# Altium footprint library adafruit.PCBLIB: 643 footprints (part 11 of 41)
Each footprint in its own frame and in the unit in brackets; x right, y up, seen from the top. Pads: shape width x height; smd on the part's side, far side on the other; paste and mask are expansions set on the pad; w line width, h text height; cw(c..) or ccw(c..) is an arc to the next point about the centre after c.
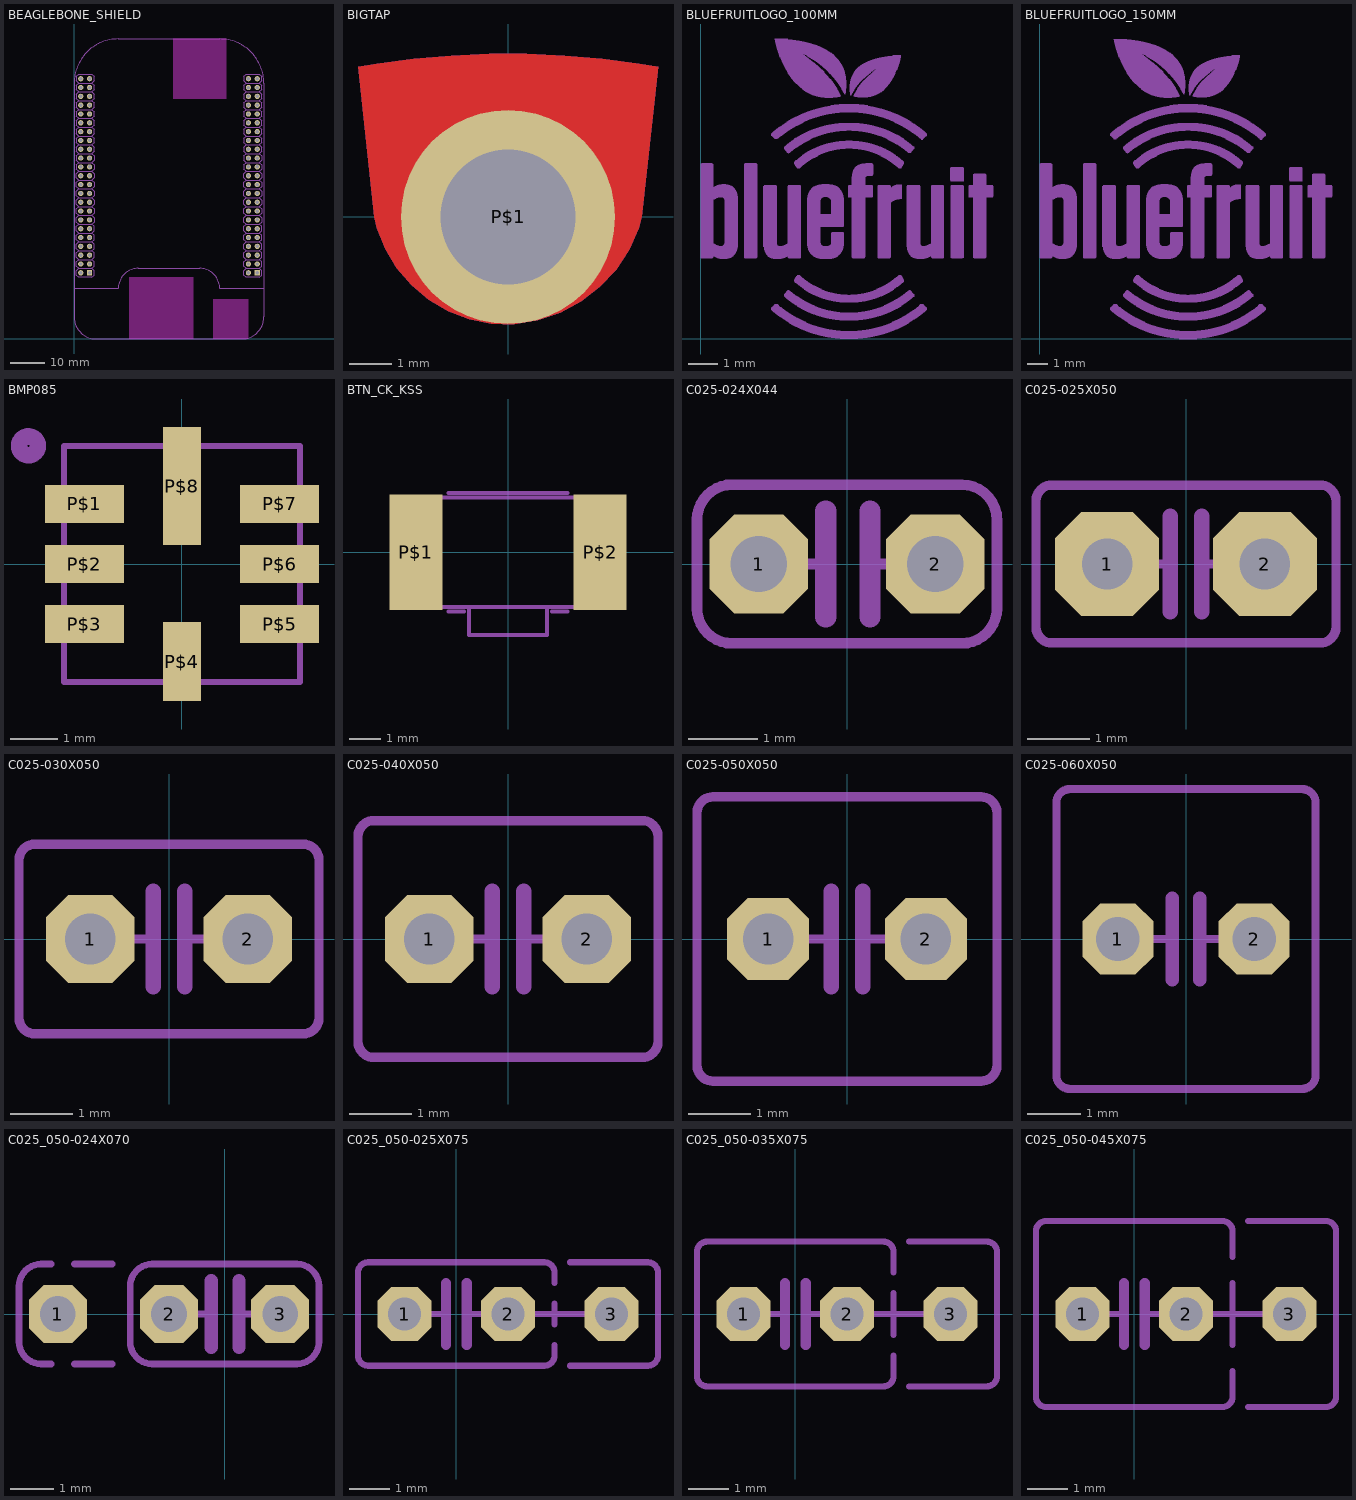
[diagram p10: the footprints below, top view; thin cyan lines are the x and y axes]

## BEAGLEBONE_SHIELD [mm]
pads (92):
  rect 1.508x1.508 / inner round 1.393 / far side rect 1.508x1.508 hole 1: 1(4.445,19.05) 47(52.705,19.05)
  round 1.508 hole 1: 2(1.905,19.05) 3(4.445,21.59) 4(1.905,21.59) 5(4.445,24.13) 6(1.905,24.13) 7(4.445,26.67) 8(1.905,26.67) 9(4.445,29.21) 10(1.905,29.21) 11(4.445,31.75) 12(1.905,31.75) 13(4.445,34.29) 14(1.905,34.29) 15(4.445,36.83) 16(1.905,36.83) 17(4.445,39.37) 18(1.905,39.37) 19(4.445,41.91) 20(1.905,41.91) 21(4.445,44.45) 22(1.905,44.45) 23(4.445,46.99) 24(1.905,46.99) 25(4.445,49.53) 26(1.905,49.53) 27(4.445,52.07) 28(1.905,52.07) 29(4.445,54.61) 30(1.905,54.61) 31(4.445,57.15) 32(1.905,57.15) 33(4.445,59.69) 34(1.905,59.69) 35(4.445,62.23) 36(1.905,62.23) 37(4.445,64.77) 38(1.905,64.77) 39(4.445,67.31) 40(1.905,67.31) 41(4.445,69.85) 42(1.905,69.85) 43(4.445,72.39) 44(1.905,72.39) 45(4.445,74.93) 46(1.905,74.93) 48(50.165,19.05) 49(52.705,21.59) 50(50.165,21.59) 51(52.705,24.13) 52(50.165,24.13) 53(52.705,26.67) 54(50.165,26.67) 55(52.705,29.21) 56(50.165,29.21) 57(52.705,31.75) 58(50.165,31.75) 59(52.705,34.29) 60(50.165,34.29) 61(52.705,36.83) 62(50.165,36.83) 63(52.705,39.37) 64(50.165,39.37) 65(52.705,41.91) 66(50.165,41.91) 67(52.705,44.45) 68(50.165,44.45) 69(52.705,46.99) 70(50.165,46.99) 71(52.705,49.53) 72(50.165,49.53) 73(52.705,52.07) 74(50.165,52.07) 75(52.705,54.61) 76(50.165,54.61) 77(52.705,57.15) 78(50.165,57.15) 79(52.705,59.69) 80(50.165,59.69) 81(52.705,62.23) 82(50.165,62.23) 83(52.705,64.77) 84(50.165,64.77) 85(52.705,67.31) 86(50.165,67.31) 87(52.705,69.85) 88(50.165,69.85) 89(52.705,72.39) 90(50.165,72.39) 91(52.705,74.93) 92(50.165,74.93)
Top keep-out:
  region: 28.575,69.215 28.575,86.36 43.815,86.36 43.815,69.215
  region: 40.005,0 40.005,11.43 50.165,11.43 50.165,0
  region: 15.875,0 15.875,17.78 34.29,17.78 34.29,0
Dimension:
  lines w0.127: 0,14.605 0,73.66 cw(c12.7,73.66) 12.7,86.36 41.91,86.36 cw(c41.91,73.66) 54.61,73.66 54.61,14.605 41.91,14.605 ccw(c36.195,14.605) 36.195,20.32 18.415,20.32 ccw(c18.415,14.605) 12.7,14.605 0,14.605
tDocu:
  drawing of 97 lines, arcs and shapes, not listed
  text "P8" at 2.54,77.47 h1.97
  text "P9" at 50.8,77.47 h1.97
tPlace:
  drawing of 324 lines, arcs and shapes, not listed

## BIGTAP [mil]
pads (1):
  round 200 hole 125.98: P$1(0,0)
Top:
  region: 140,140 122.68,143.05 87.79,147.65 52.74,150.71 17.59,152.25 -17.59,152.25 -52.74,150.71 -87.79,147.65 -122.68,143.05 -140,140 -125,0 -122.69,-10.26 -114.78,-29.76 -103.81,-47.71 -90.05,-63.63 -73.89,-77.1 -55.75,-87.76 -36.12,-95.32 -15.51,-99.58 -5,-100 6.05,-99.99 27.84,-96.36 48.75,-89.24 68.22,-78.8 85.73,-65.33 100.81,-49.19 113.06,-30.81 122.15,-10.67 125,0
Bottom:
  region: 140,140 122.68,143.05 87.79,147.65 52.74,150.71 17.59,152.25 -17.59,152.25 -52.74,150.71 -87.79,147.65 -122.68,143.05 -140,140 -125,0 -122.69,-10.26 -114.78,-29.76 -103.81,-47.71 -90.05,-63.63 -73.89,-77.1 -55.75,-87.76 -36.12,-95.32 -15.51,-99.58 -5,-100 6.05,-99.99 27.84,-96.36 48.75,-89.24 68.22,-78.8 85.73,-65.33 100.81,-49.19 113.06,-30.81 122.15,-10.67 125,0
Top Solder:
  region: 140,140 122.68,143.05 87.79,147.65 52.74,150.71 17.59,152.25 -17.59,152.25 -52.74,150.71 -87.79,147.65 -122.68,143.05 -140,140 -125,0 -122.69,-10.26 -114.78,-29.76 -103.81,-47.71 -90.05,-63.63 -73.89,-77.1 -55.75,-87.76 -36.12,-95.32 -15.51,-99.58 -5,-100 6.05,-99.99 27.84,-96.36 48.75,-89.24 68.22,-78.8 85.73,-65.33 100.81,-49.19 113.06,-30.81 122.15,-10.67 125,0
Bottom Solder:
  region: 140,140 122.68,143.05 87.79,147.65 52.74,150.71 17.59,152.25 -17.59,152.25 -52.74,150.71 -87.79,147.65 -122.68,143.05 -140,140 -125,0 -122.69,-10.26 -114.78,-29.76 -103.81,-47.71 -90.05,-63.63 -73.89,-77.1 -55.75,-87.76 -36.12,-95.32 -15.51,-99.58 -5,-100 6.05,-99.99 27.84,-96.36 48.75,-89.24 68.22,-78.8 85.73,-65.33 100.81,-49.19 113.06,-30.81 122.15,-10.67 125,0

## BLUEFRUITLOGO_100MM [mil]
tPlace:
  drawing of 2838 lines, arcs and shapes, not listed

## BLUEFRUITLOGO_150MM [mil]
tPlace:
  drawing of 2838 lines, arcs and shapes, not listed

## BMP085 [mil]
pads (8):
  rect 65.75x31.5 smd: P$1(-81.3,50) P$2(-81.3,0) P$3(-81.3,-50) P$5(81.3,-50) P$6(81.3,0) P$7(81.3,50)
  rect 31.5x65.75 smd: P$4(0,-81.3)
  rect 31.5x98.43 smd: P$8(0,64.96)
tDocu:
  lines w5: -98.43,-98.43 98.43,-98.43 98.43,98.43 -98.43,98.43 -98.43,-98.43
tPlace:
  circle w13.78: c-127.95,98.43 r7.87
  lines w5: -98.43,-78.74 -98.43,-98.43 -29.53,-98.43 ; -98.43,78.74 -98.43,98.43 -29.53,98.43 ; 29.53,-98.43 98.43,-98.43 98.43,-78.74 ; 29.53,98.43 98.43,98.43 98.43,78.74

## BTN_CK_KSS [mm]
pads (2):
  rect 1.7x3.7 smd: P$1(-2.95,0) P$2(2.95,0)
tDocu:
  lines w0.127: -2.75,-1.505 -2.75,-1.75 -1.25,-1.75 ; -2.75,-1.505 -2.75,1.505 ; -2.75,-1.505 -3.5,-1.505 -3.5,1.505 -2.75,1.505 ; -2.75,1.505 -2.75,1.75 2.75,1.75 2.75,1.505 ; -1.25,-1.75 1.25,-1.75 ; -1.25,-1.75 -1.25,-2.65 1.25,-2.65 1.25,-1.75 ; 1.25,-1.75 2.75,-1.75 2.75,-1.505 ; 2.75,-1.505 2.75,1.505 ; 2.75,-1.505 3.5,-1.505 3.5,1.505 2.75,1.505
tPlace:
  lines w0.127: -1.9,-1.9 -1.4,-1.9 ; -1.9,1.9 1.9,1.9 ; 1.4,-1.9 1.9,-1.9

## C025-024X044 [mil]
pads (2):
  oct 56x56 / inner round 51.74 / far side oct 56x56 hole 32: 1(-50,0) 2(50,0)
tDocu:
  lines w6: -50,0 -12,0 ; 13,0 50,0
tPlace:
  lines w6: -85,-25 -85,25 cw(c-65,25) -65,45 65,45 cw(c65,25) 85,25 85,-25 cw(c65,-25) 65,-45 -65,-45 cw(c-65,-25) -85,-25
  lines w12: -12,-30 -12,30 ; 13,-30 13,30

## C025-025X050 [mil]
pads (2):
  oct 66x66 / inner round 60.98 / far side oct 66x66 hole 32: 1(-50,0) 2(50,0)
tDocu:
  lines w6: -30,0 -15,0 ; 15,0 30,0
tPlace:
  lines w6: -15,0 -10,0 ; 10,0 15,0 ; -95,-40 -95,40 cw(c-85,40) -85,50 85,50 cw(c85,40) 95,40 95,-40 cw(c85,-40) 85,-50 -85,-50 cw(c-85,-40) -95,-40
  lines w10: -10,-30 -10,0 -10,30 ; 10,-30 10,0 10,30

## C025-030X050 [mil]
pads (2):
  oct 56x56 / inner round 51.74 / far side oct 56x56 hole 32: 1(-50,0) 2(50,0)
tDocu:
  lines w6: -30,0 -15,0 ; 15,0 30,0
tPlace:
  lines w6: -15,0 -10,0 ; 10,0 15,0 ; -95,-50 -95,50 cw(c-85,50) -85,60 85,60 cw(c85,50) 95,50 95,-50 cw(c85,-50) 85,-60 -85,-60 cw(c-85,-50) -95,-50
  lines w10: -10,-30 -10,0 -10,30 ; 10,-30 10,0 10,30

## C025-040X050 [mil]
pads (2):
  oct 56x56 / inner round 51.74 / far side oct 56x56 hole 32: 1(-50,0) 2(50,0)
tDocu:
  lines w6: -30,0 -15,0 ; 15,0 30,0
tPlace:
  lines w6: -15,0 -10,0 ; 10,0 15,0 ; -95,-65 -95,65 cw(c-85,65) -85,75 85,75 cw(c85,65) 95,65 95,-65 cw(c85,-65) 85,-75 -85,-75 cw(c-85,-65) -95,-65
  lines w10: -10,-30 -10,0 -10,30 ; 10,-30 10,0 10,30

## C025-050X050 [mil]
pads (2):
  oct 52x52 / inner round 48.04 / far side oct 52x52 hole 32: 1(-50,0) 2(50,0)
tDocu:
  lines w6: -30,0 -15,0 ; 15,0 30,0
tPlace:
  lines w6: -15,0 -10,0 ; 10,0 15,0 ; -95,-80 -95,80 cw(c-85,80) -85,90 85,90 cw(c85,80) 95,80 95,-80 cw(c85,-80) 85,-90 -85,-90 cw(c-85,-80) -95,-80
  lines w10: -10,-30 -10,0 -10,30 ; 10,-30 10,0 10,30

## C025-060X050 [mil]
pads (2):
  oct 52x52 / inner round 48.04 / far side oct 52x52 hole 32: 1(-50,0) 2(50,0)
tDocu:
  lines w6: -30,0 -15,0 ; 15,0 30,0
tPlace:
  lines w6: -15,0 -10,0 ; 10,0 15,0 ; -95,-100 -95,100 cw(c-85,100) -85,110 85,110 cw(c85,100) 95,100 95,-100 cw(c85,-100) 85,-110 -85,-110 cw(c-85,-100) -95,-100
  lines w10: -10,-30 -10,0 -10,30 ; 10,-30 10,0 10,30

## C025_050-024X070 [mil]
pads (3):
  oct 52x52 / inner round 48.04 / far side oct 52x52 hole 32: 1(-150,0) 2(-50,0) 3(50,0)
tDocu:
  lines w6: -85,-25 -85,25 ; -50,0 -12,0 ; 13,0 50,0 ; 85,-25 85,25
tPlace:
  lines w6: -156,-45 -165,-45 cw(c-165,-25) -185,-25 -185,25 cw(c-165,25) -165,45 -156,45 ; -135,-45 -101,-45 ; -135,45 -101,45 ; -85,-25 ccw(c-65,-25) -65,-45 65,-45 ccw(c65,-25) 85,-25 ; -85,25 cw(c-65,25) -65,45 65,45 cw(c65,25) 85,25
  lines w12: -12,-30 -12,30 ; 13,-30 13,30

## C025_050-025X075 [mil]
pads (3):
  oct 52x52 / inner round 48.04 / far side oct 52x52 hole 32: 1(-50,0) 2(50,0) 3(150,0)
tDocu:
  lines w6: -30,0 -15,0 ; 15,0 30,0 ; 70,0 90,0 ; 110,0 130,0
tPlace:
  lines w6: -15,0 -10,0 ; 10,0 15,0 ; 90,0 110,0 ; 95,-30 95,-40 cw(c85,-40) 85,-50 -85,-50 cw(c-85,-40) -95,-40 -95,40 cw(c-85,40) -85,50 85,50 cw(c85,40) 95,40 95,30 ; 95,-10 95,10 ; 110,-50 185,-50 ccw(c185,-40) 195,-40 195,40 ccw(c185,40) 185,50 110,50
  lines w10: -10,-30 -10,0 -10,30 ; 10,-30 10,0 10,30

## C025_050-035X075 [mil]
pads (3):
  oct 52x52 / inner round 48.04 / far side oct 52x52 hole 32: 1(-50,0) 2(50,0) 3(150,0)
tDocu:
  lines w6: -30,0 -15,0 ; 15,0 30,0 ; 70,0 90,0 ; 110,0 130,0
tPlace:
  lines w6: -15,0 -10,0 ; 10,0 15,0 ; 90,0 110,0 ; 95,-40 95,-60 cw(c85,-60) 85,-70 -85,-70 cw(c-85,-60) -95,-60 -95,60 cw(c-85,60) -85,70 85,70 cw(c85,60) 95,60 95,40 ; 95,-20 95,20 ; 110,-70 185,-70 ccw(c185,-60) 195,-60 195,60 ccw(c185,60) 185,70 110,70
  lines w10: -10,-30 -10,0 -10,30 ; 10,-30 10,0 10,30

## C025_050-045X075 [mil]
pads (3):
  oct 52x52 / inner round 48.04 / far side oct 52x52 hole 32: 1(-50,0) 2(50,0) 3(150,0)
tDocu:
  lines w6: -30,0 -15,0 ; 15,0 30,0 ; 70,0 90,0 ; 110,0 130,0
tPlace:
  lines w6: -15,0 -10,0 ; 10,0 15,0 ; 90,0 110,0 ; 95,-55 95,-80 cw(c85,-80) 85,-90 -85,-90 cw(c-85,-80) -95,-80 -95,80 cw(c-85,80) -85,90 85,90 cw(c85,80) 95,80 95,55 ; 95,-30 95,30 ; 110,-90 185,-90 ccw(c185,-80) 195,-80 195,80 ccw(c185,80) 185,90 110,90
  lines w10: -10,-30 -10,0 -10,30 ; 10,-30 10,0 10,30